# Altium footprint library DPAK254P1542X460-3N.PcbLib: 1 footprints
Each footprint in its own frame and in the unit in brackets; x right, y up, seen from the top. Pads: shape width x height; smd on the part's side, far side on the other; paste and mask are expansions set on the pad; w line width, h text height; cw(c..) or ccw(c..) is an arc to the next point about the centre after c.
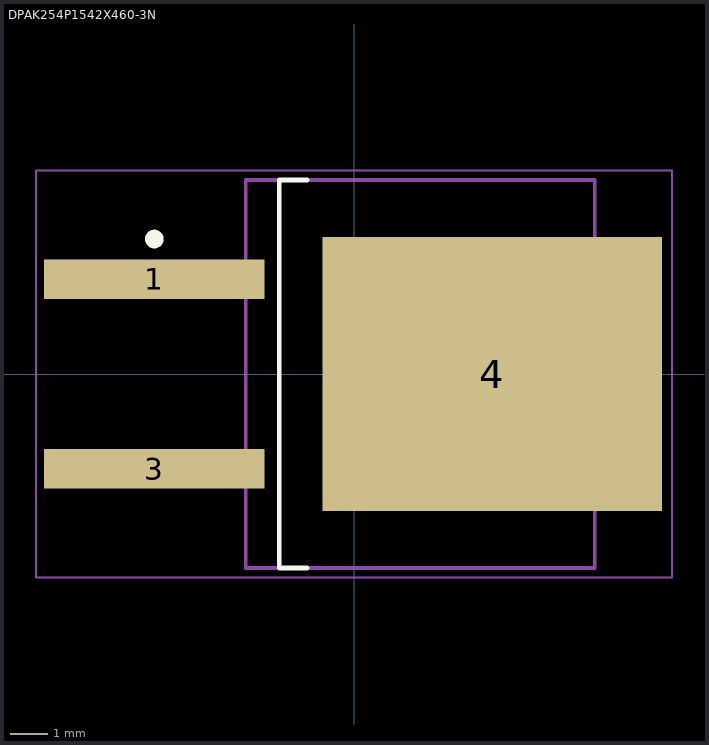
[diagram p0: the footprint, top view; thin cyan lines are the x and y axes]

## DPAK254P1542X460-3N [mm] "D2-PAK, 3-Pads, Body 7.78x8.56mm (max), IPC Medium Density"
height 4.6
pads (3):
  rect 5.9x1.05 smd: 1(-5.35,2.54) 3(-5.35,-2.54)
  rect 9.1x7.35 smd: 4(3.7,0)
Top Overlay:
  circle w0.25: c-5.35,3.615 r0.125
  lines w0.127: -1.25,-5.2 -2,-5.2 -2,5.2 -1.25,5.2
Mechanical 13:
  lines w0.1: -2.9,-5.2 6.45,-5.2 6.45,5.2 -2.9,5.2 -2.9,-5.2
Mechanical 15:
  lines w0.05: -8.525,-5.45 8.525,-5.45 8.525,5.45 -8.525,5.45 -8.525,-5.45
  lines w0.1: -0.5,0 0.5,0 ; 0,-0.5 0,0.5
3D body "DPAK254P1542X460-3N.step": height 4.63, standoff 0, extent -7.29,-5.2 8.135,5.2